# Altium schematic symbol library WL-SMCW_0603.SchLib: 6 symbols
Pins are listed as number, name and electrical type; pins without a type are passive.

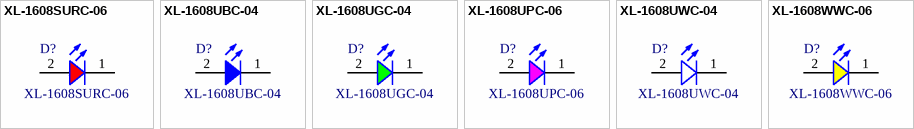
[diagram p0: symbols XL-1608SURC-06 to XL-1608WWC-06]

## XL-1608SURC-06
designator D?
Red 625nm LED Indication - Discrete 2.3V 0603; Manufacturer: XINGLIGHT; Type: Clear; Color: Red; ComponentLink1Description: Datasheet; ComponentLink1URL: https://www.lcsc.com/datasheet/C965807.pdf; Supplier 1 URL: N/A; Supplier 2 URL: N/A; Supplier 3 URL: https://www.thegioiic.com/led-do-0603-dan-smd-trong-suot; Value: XL-1608SURC-06; Manufacturer Part Number: XL-1608SURC-06; Mount: SMD/SMT; Operating Temperature Max: + 85 C; Operating Temperature Min: - 40 C; Package / Case: 0603; Packaging: Tape and Reel; Supplier 1: Mouser; Supplier 1 Part Number: N/A; Supplier 2: Digi-Key; Supplier 2 Part Number: N/A; Supplier 3: thegioiic; Supplier 3 Part Number: N/A; LCSC Part #: C965799
footprint WL-SMCW_0603_H=0.7mm (SMD Mono-color Chip LED, body 1.6x0.8mm)
pins: 1 K, 2 A

## XL-1608UBC-04
designator D?
Blue 470nm LED Indication - Discrete 3.3V 0603; Manufacturer: XINGLIGHT; Type: Clear; Color: Blue; ComponentLink1Description: Datasheet; ComponentLink1URL: https://www.lcsc.com/datasheet/C965807.pdf; Supplier 1 URL: N/A; Supplier 2 URL: N/A; Supplier 3 URL: https://www.thegioiic.com/led-xanh-duong-0603-dan-smd-trong-suot; Value: XL-1608UBC-04; Manufacturer Part Number: XL-1608UBC-04; Mount: SMD/SMT; Operating Temperature Max: + 85 C; Operating Temperature Min: - 40 C; Package / Case: 0603; Packaging: Tape and Reel; Supplier 1: Mouser; Supplier 1 Part Number: N/A; Supplier 2: Digi-Key; Supplier 2 Part Number: N/A; Supplier 3: thegioiic; Supplier 3 Part Number: N/A; LCSC Part #: C965807
footprint WL-SMCW_0603_H=0.7mm (SMD Mono-color Chip LED, body 1.6x0.8mm)
pins: 1 K, 2 A

## XL-1608UGC-04
designator D?
Emerald Green 525nm LED Indication - Discrete 3.3V 0603; Manufacturer: XINGLIGHT; Type: Clear; Color: Green; ComponentLink1Description: Datasheet; ComponentLink1URL: https://www.lcsc.com/datasheet/C965807.pdf; Supplier 1 URL: N/A; Supplier 2 URL: N/A; Supplier 3 URL: https://www.thegioiic.com/led-xanh-la-0603-dan-smd-trong-suot; Value: XL-1608UGC-04; Mount: SMD/SMT; Operating Temperature Max: + 85 C; Operating Temperature Min: - 40 C; Package / Case: 0603; Packaging: Tape and Reel; Supplier 1: Mouser; Supplier 1 Part Number: N/A; Supplier 2: Digi-Key; Supplier 2 Part Number: N/A; Supplier 3: thegioiic; Supplier 3 Part Number: N/A; LCSC Part #: C965804; Manufacturer Part Number: XL-1608UGC-04
footprint WL-SMCW_0603_H=0.7mm (SMD Mono-color Chip LED, body 1.6x0.8mm)
pins: 1 K, 2 A

## XL-1608UPC-06
designator D?
Pink LED Indication - Discrete 3.3V 0603; Manufacturer: XINGLIGHT; Type: Clear; Color: Pink; ComponentLink1Description: Datasheet; ComponentLink1URL: https://www.lcsc.com/datasheet/C965807.pdf; Supplier 1 URL: N/A; Supplier 2 URL: N/A; Supplier 3 URL: https://www.thegioiic.com/led-hong-0603-dan-smd-trong-suot; Value: XL-1608UPC-06; Mount: SMD/SMT; Operating Temperature Max: + 85 C; Operating Temperature Min: - 40 C; Package / Case: 0603; Packaging: Tape and Reel; Supplier 1: Mouser; Supplier 1 Part Number: N/A; Supplier 2: Digi-Key; Supplier 2 Part Number: N/A; Supplier 3: thegioiic; Supplier 3 Part Number: N/A; LCSC Part #: C2977076; Manufacturer Part Number: XL-1608UPC-06
footprint WL-SMCW_0603_H=0.7mm (SMD Mono-color Chip LED, body 1.6x0.8mm)
pins: 1 K, 2 A

## XL-1608UWC-04
designator D?
White LED Indication - Discrete 2.7V 0603; Manufacturer: XINGLIGHT; Type: Clear; Color: White; ComponentLink1Description: Datasheet; ComponentLink1URL: https://www.lcsc.com/datasheet/C965807.pdf; Supplier 1 URL: N/A; Supplier 2 URL: N/A; Supplier 3 URL: https://www.thegioiic.com/led-trang-0603-dan-smd-trong-suot; Value: XL-1608UWC-04; Manufacturer Part Number: XL-1608UWC-04; Mount: SMD/SMT; Operating Temperature Max: + 85 C; Operating Temperature Min: - 40 C; Package / Case: 0603; Packaging: Tape and Reel; Supplier 1: Mouser; Supplier 1 Part Number: N/A; Supplier 2: Digi-Key; Supplier 2 Part Number: N/A; Supplier 3: thegioiic; Supplier 3 Part Number: N/A; LCSC Part #: C965808
footprint WL-SMCW_0603_H=0.7mm (SMD Mono-color Chip LED, body 1.6x0.8mm)
pins: 1 K, 2 A

## XL-1608WWC-06
designator D?
Warm White LED Indication - Discrete 3.3V 0603; Manufacturer: XINGLIGHT; Color: Yellow; Type: Clear; ComponentLink1Description: Datasheet; ComponentLink1URL: https://www.lcsc.com/datasheet/C965807.pdf; Supplier 1 URL: N/A; Supplier 2 URL: N/A; Supplier 3 URL: https://icdayroi.com/led-yellow-0603; Value: XL-1608WWC-06; Manufacturer Part Number: XL-1608WWC-06; Mount: SMD/SMT; Operating Temperature Max: + 85 C; Operating Temperature Min: - 40 C; Package / Case: 0603; Packaging: Tape and Reel; Supplier 1: Mouser; Supplier 1 Part Number: N/A; Supplier 2: Digi-Key; Supplier 2 Part Number: N/A; Supplier 3: ICDayRoi; Supplier 3 Part Number: N/A; LCSC Part #: C965810
footprint WL-SMCW_0603_H=0.7mm (SMD Mono-color Chip LED, body 1.6x0.8mm)
pins: 1 K, 2 A